# Altium footprint library UL865PCB.PcbLib: 1 footprints
Each footprint in its own frame and in the unit in brackets; x right, y up, seen from the top. Pads: shape width x height; smd on the part's side, far side on the other; paste and mask are expansions set on the pad; w line width, h text height; cw(c..) or ccw(c..) is an arc to the next point about the centre after c.
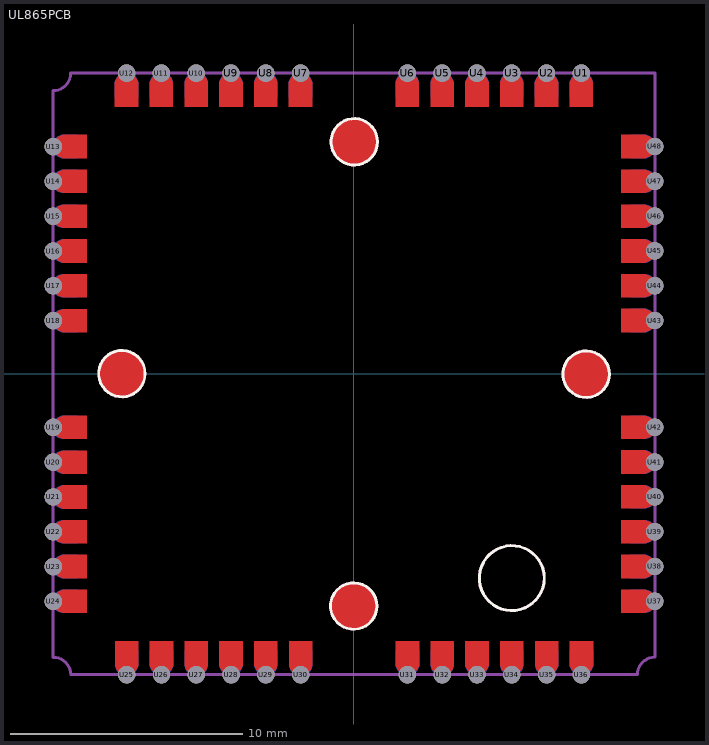
[diagram p0: the footprint, top view; thin cyan lines are the x and y axes]

## UL865PCB [mm]
pads (48):
  round 0.75 hole 0.75 paste+0 mask+0: U1(9.798,12.962) U2(8.298,12.962) U3(6.798,12.962) U4(5.298,12.962) U5(3.798,12.962) U6(2.298,12.962) U7(-2.302,12.962) U8(-3.802,12.962) U9(-5.302,12.962) U10(-6.802,12.962) U11(-8.302,12.962) U12(-9.802,12.962) U13(-12.962,9.798) U14(-12.962,8.298) U15(-12.962,6.798) U16(-12.962,5.298) U17(-12.962,3.798) U18(-12.962,2.298) U19(-12.962,-2.302) U20(-12.962,-3.802) U21(-12.962,-5.302) U22(-12.962,-6.802) U23(-12.962,-8.302) U24(-12.962,-9.802) U25(-9.798,-12.962) U26(-8.298,-12.962) U27(-6.798,-12.962) U28(-5.298,-12.962) U29(-3.798,-12.962) U30(-2.298,-12.962) U31(2.302,-12.962) U32(3.802,-12.962) U33(5.302,-12.962) U34(6.802,-12.962) U35(8.302,-12.962) U36(9.802,-12.962) U37(12.962,-9.798) U38(12.962,-8.298) U39(12.962,-6.798) U40(12.962,-5.298) U41(12.962,-3.798) U42(12.962,-2.298) U43(12.962,2.302) U44(12.962,3.802) U45(12.962,5.302) U46(12.962,6.802) U47(12.962,8.302) U48(12.962,9.802)
Top Layer:
  region: -12.462,1.798 -12.562,1.798 -12.746,1.874 -12.886,2.015 -12.962,2.199 -12.962,2.398 -12.886,2.581 -12.746,2.722 -12.562,2.798 -12.462,2.798 -11.512,2.798 -11.512,1.798
  region: -12.462,3.298 -12.562,3.298 -12.746,3.374 -12.886,3.515 -12.962,3.699 -12.962,3.898 -12.886,4.081 -12.746,4.222 -12.562,4.298 -12.462,4.298 -11.512,4.298 -11.512,3.298
  region: -12.462,4.798 -12.562,4.798 -12.746,4.874 -12.886,5.015 -12.962,5.199 -12.962,5.398 -12.886,5.581 -12.746,5.722 -12.562,5.798 -12.462,5.798 -11.512,5.798 -11.512,4.798
  region: -12.462,6.298 -12.562,6.298 -12.746,6.374 -12.886,6.515 -12.962,6.699 -12.962,6.898 -12.886,7.081 -12.746,7.222 -12.562,7.298 -12.462,7.298 -11.512,7.298 -11.512,6.298
  region: -12.462,7.798 -12.562,7.798 -12.746,7.874 -12.886,8.015 -12.962,8.199 -12.962,8.398 -12.886,8.581 -12.746,8.722 -12.562,8.798 -12.462,8.798 -11.512,8.798 -11.512,7.798
  region: -12.462,9.298 -12.562,9.298 -12.746,9.374 -12.886,9.515 -12.962,9.699 -12.962,9.898 -12.886,10.081 -12.746,10.222 -12.562,10.298 -12.462,10.298 -11.512,10.298 -11.512,9.298
  region: -12.462,-10.302 -12.562,-10.302 -12.746,-10.226 -12.886,-10.085 -12.962,-9.901 -12.962,-9.702 -12.886,-9.519 -12.746,-9.378 -12.562,-9.302 -12.462,-9.302 -11.512,-9.302 -11.512,-10.302
  region: -12.462,-8.802 -12.562,-8.802 -12.746,-8.726 -12.886,-8.585 -12.962,-8.401 -12.962,-8.202 -12.886,-8.019 -12.746,-7.878 -12.562,-7.802 -12.462,-7.802 -11.512,-7.802 -11.512,-8.802
  region: -12.462,-7.302 -12.562,-7.302 -12.746,-7.226 -12.886,-7.085 -12.962,-6.901 -12.962,-6.702 -12.886,-6.519 -12.746,-6.378 -12.562,-6.302 -12.462,-6.302 -11.512,-6.302 -11.512,-7.302
  region: -12.462,-5.802 -12.562,-5.802 -12.746,-5.726 -12.886,-5.585 -12.962,-5.401 -12.962,-5.202 -12.886,-5.019 -12.746,-4.878 -12.562,-4.802 -12.462,-4.802 -11.512,-4.802 -11.512,-5.802
  region: -12.462,-4.302 -12.562,-4.302 -12.746,-4.226 -12.886,-4.085 -12.962,-3.901 -12.962,-3.702 -12.886,-3.519 -12.746,-3.378 -12.562,-3.302 -12.462,-3.302 -11.512,-3.302 -11.512,-4.302
  region: -12.462,-2.802 -12.562,-2.802 -12.746,-2.726 -12.886,-2.585 -12.962,-2.401 -12.962,-2.202 -12.886,-2.019 -12.746,-1.878 -12.562,-1.802 -12.462,-1.802 -11.512,-1.802 -11.512,-2.802
  region: -1.798,-12.462 -1.798,-12.562 -1.874,-12.746 -2.015,-12.886 -2.199,-12.962 -2.398,-12.962 -2.581,-12.886 -2.722,-12.746 -2.798,-12.562 -2.798,-12.462 -2.798,-11.512 -1.798,-11.512
  region: -3.298,-12.462 -3.298,-12.562 -3.374,-12.746 -3.515,-12.886 -3.699,-12.962 -3.898,-12.962 -4.081,-12.886 -4.222,-12.746 -4.298,-12.562 -4.298,-12.462 -4.298,-11.512 -3.298,-11.512
  region: -4.798,-12.462 -4.798,-12.562 -4.874,-12.746 -5.015,-12.886 -5.199,-12.962 -5.398,-12.962 -5.581,-12.886 -5.722,-12.746 -5.798,-12.562 -5.798,-12.462 -5.798,-11.512 -4.798,-11.512
  region: -6.298,-12.462 -6.298,-12.562 -6.374,-12.746 -6.515,-12.886 -6.699,-12.962 -6.898,-12.962 -7.081,-12.886 -7.222,-12.746 -7.298,-12.562 -7.298,-12.462 -7.298,-11.512 -6.298,-11.512
  region: -7.798,-12.462 -7.798,-12.562 -7.874,-12.746 -8.015,-12.886 -8.199,-12.962 -8.398,-12.962 -8.581,-12.886 -8.722,-12.746 -8.798,-12.562 -8.798,-12.462 -8.798,-11.512 -7.798,-11.512
  region: -9.298,-12.462 -9.298,-12.562 -9.374,-12.746 -9.515,-12.886 -9.699,-12.962 -9.898,-12.962 -10.081,-12.886 -10.222,-12.746 -10.298,-12.562 -10.298,-12.462 -10.298,-11.512 -9.298,-11.512
  region: 10.302,-12.462 10.302,-12.562 10.226,-12.746 10.085,-12.886 9.901,-12.962 9.702,-12.962 9.519,-12.886 9.378,-12.746 9.302,-12.562 9.302,-12.462 9.302,-11.512 10.302,-11.512
  region: 8.802,-12.462 8.802,-12.562 8.726,-12.746 8.585,-12.886 8.401,-12.962 8.202,-12.962 8.019,-12.886 7.878,-12.746 7.802,-12.562 7.802,-12.462 7.802,-11.512 8.802,-11.512
  region: 7.302,-12.462 7.302,-12.562 7.226,-12.746 7.085,-12.886 6.901,-12.962 6.702,-12.962 6.519,-12.886 6.378,-12.746 6.302,-12.562 6.302,-12.462 6.302,-11.512 7.302,-11.512
  region: 5.802,-12.462 5.802,-12.562 5.726,-12.746 5.585,-12.886 5.401,-12.962 5.202,-12.962 5.019,-12.886 4.878,-12.746 4.802,-12.562 4.802,-12.462 4.802,-11.512 5.802,-11.512
  region: 4.302,-12.462 4.302,-12.562 4.226,-12.746 4.085,-12.886 3.901,-12.962 3.702,-12.962 3.519,-12.886 3.378,-12.746 3.302,-12.562 3.302,-12.462 3.302,-11.512 4.302,-11.512
  region: 2.802,-12.462 2.802,-12.562 2.726,-12.746 2.585,-12.886 2.401,-12.962 2.202,-12.962 2.019,-12.886 1.878,-12.746 1.802,-12.562 1.802,-12.462 1.802,-11.512 2.802,-11.512
  region: 12.462,-1.798 12.562,-1.798 12.746,-1.874 12.886,-2.015 12.962,-2.199 12.962,-2.398 12.886,-2.581 12.746,-2.722 12.562,-2.798 12.462,-2.798 11.512,-2.798 11.512,-1.798
  region: 12.462,-3.298 12.562,-3.298 12.746,-3.374 12.886,-3.515 12.962,-3.699 12.962,-3.898 12.886,-4.081 12.746,-4.222 12.562,-4.298 12.462,-4.298 11.512,-4.298 11.512,-3.298
  region: 12.462,-4.798 12.562,-4.798 12.746,-4.874 12.886,-5.015 12.962,-5.199 12.962,-5.398 12.886,-5.581 12.746,-5.722 12.562,-5.798 12.462,-5.798 11.512,-5.798 11.512,-4.798
  region: 12.462,-6.298 12.562,-6.298 12.746,-6.374 12.886,-6.515 12.962,-6.699 12.962,-6.898 12.886,-7.081 12.746,-7.222 12.562,-7.298 12.462,-7.298 11.512,-7.298 11.512,-6.298
  region: 12.462,-7.798 12.562,-7.798 12.746,-7.874 12.886,-8.015 12.962,-8.199 12.962,-8.398 12.886,-8.581 12.746,-8.722 12.562,-8.798 12.462,-8.798 11.512,-8.798 11.512,-7.798
  region: 12.462,-9.298 12.562,-9.298 12.746,-9.374 12.886,-9.515 12.962,-9.699 12.962,-9.898 12.886,-10.081 12.746,-10.222 12.562,-10.298 12.462,-10.298 11.512,-10.298 11.512,-9.298
  region: 12.462,10.302 12.562,10.302 12.746,10.226 12.886,10.085 12.962,9.901 12.962,9.702 12.886,9.519 12.746,9.378 12.562,9.302 12.462,9.302 11.512,9.302 11.512,10.302
  region: 12.462,8.802 12.562,8.802 12.746,8.726 12.886,8.585 12.962,8.401 12.962,8.202 12.886,8.019 12.746,7.878 12.562,7.802 12.462,7.802 11.512,7.802 11.512,8.802
  region: 12.462,7.302 12.562,7.302 12.746,7.226 12.886,7.085 12.962,6.901 12.962,6.702 12.886,6.519 12.746,6.378 12.562,6.302 12.462,6.302 11.512,6.302 11.512,7.302
  region: 12.462,5.802 12.562,5.802 12.746,5.726 12.886,5.585 12.962,5.401 12.962,5.202 12.886,5.019 12.746,4.878 12.562,4.802 12.462,4.802 11.512,4.802 11.512,5.802
  region: 12.462,4.302 12.562,4.302 12.746,4.226 12.886,4.085 12.962,3.901 12.962,3.702 12.886,3.519 12.746,3.378 12.562,3.302 12.462,3.302 11.512,3.302 11.512,4.302
  region: 12.462,2.802 12.562,2.802 12.746,2.726 12.886,2.585 12.962,2.401 12.962,2.202 12.886,2.019 12.746,1.878 12.562,1.802 12.462,1.802 11.512,1.802 11.512,2.802
  region: 1.798,12.462 1.798,12.562 1.874,12.746 2.015,12.886 2.199,12.962 2.398,12.962 2.581,12.886 2.722,12.746 2.798,12.562 2.798,12.462 2.798,11.512 1.798,11.512
  region: 3.298,12.462 3.298,12.562 3.374,12.746 3.515,12.886 3.699,12.962 3.898,12.962 4.081,12.886 4.222,12.746 4.298,12.562 4.298,12.462 4.298,11.512 3.298,11.512
  region: 4.798,12.462 4.798,12.562 4.874,12.746 5.015,12.886 5.199,12.962 5.398,12.962 5.581,12.886 5.722,12.746 5.798,12.562 5.798,12.462 5.798,11.512 4.798,11.512
  region: 6.298,12.462 6.298,12.562 6.374,12.746 6.515,12.886 6.699,12.962 6.898,12.962 7.081,12.886 7.222,12.746 7.298,12.562 7.298,12.462 7.298,11.512 6.298,11.512
  region: 7.798,12.462 7.798,12.562 7.874,12.746 8.015,12.886 8.199,12.962 8.398,12.962 8.581,12.886 8.722,12.746 8.798,12.562 8.798,12.462 8.798,11.512 7.798,11.512
  region: 9.298,12.462 9.298,12.562 9.374,12.746 9.515,12.886 9.699,12.962 9.898,12.962 10.081,12.886 10.222,12.746 10.298,12.562 10.298,12.462 10.298,11.512 9.298,11.512
  region: -10.302,12.462 -10.302,12.562 -10.226,12.746 -10.085,12.886 -9.901,12.962 -9.702,12.962 -9.519,12.886 -9.378,12.746 -9.302,12.562 -9.302,12.462 -9.302,11.512 -10.302,11.512
  region: -8.802,12.462 -8.802,12.562 -8.726,12.746 -8.585,12.886 -8.401,12.962 -8.202,12.962 -8.019,12.886 -7.878,12.746 -7.802,12.562 -7.802,12.462 -7.802,11.512 -8.802,11.512
  region: -7.302,12.462 -7.302,12.562 -7.226,12.746 -7.085,12.886 -6.901,12.962 -6.702,12.962 -6.519,12.886 -6.378,12.746 -6.302,12.562 -6.302,12.462 -6.302,11.512 -7.302,11.512
  region: -5.802,12.462 -5.802,12.562 -5.726,12.746 -5.585,12.886 -5.401,12.962 -5.202,12.962 -5.019,12.886 -4.878,12.746 -4.802,12.562 -4.802,12.462 -4.802,11.512 -5.802,11.512
  region: -4.302,12.462 -4.302,12.562 -4.226,12.746 -4.085,12.886 -3.901,12.962 -3.702,12.962 -3.519,12.886 -3.378,12.746 -3.302,12.562 -3.302,12.462 -3.302,11.512 -4.302,11.512
  region: -2.802,12.462 -2.802,12.562 -2.726,12.746 -2.585,12.886 -2.401,12.962 -2.202,12.962 -2.019,12.886 -1.878,12.746 -1.802,12.562 -1.802,12.462 -1.802,11.512 -2.802,11.512
  pour cut-out: 9.962,0.991 9.968,0.991 10.071,0.991 10.272,0.951 10.461,0.872 10.632,0.758 10.777,0.613 10.891,0.442 10.969,0.253 11.009,0.052 11.009,-0.051 11.009,-0.143 10.973,-0.325 10.902,-0.496 10.8,-0.65 10.669,-0.781 10.515,-0.884 10.344,-0.954 10.162,-0.991 10.07,-0.991 9.962,-0.991 9.869,-0.991 9.686,-0.954 9.514,-0.883 9.36,-0.78 9.228,-0.648 9.125,-0.493 9.053,-0.321 9.017,-0.139 9.017,-0.046 9.017,0.046 9.017,0.139 9.053,0.321 9.125,0.493 9.228,0.648 9.36,0.78 9.514,0.883 9.686,0.954 9.869,0.991
  pour cut-out: 0.991,-9.962 0.991,-9.968 0.991,-10.071 0.951,-10.272 0.872,-10.461 0.758,-10.632 0.613,-10.777 0.442,-10.891 0.253,-10.969 0.052,-11.009 -0.051,-11.009 -0.143,-11.009 -0.325,-10.973 -0.496,-10.902 -0.65,-10.8 -0.781,-10.669 -0.884,-10.515 -0.954,-10.344 -0.991,-10.162 -0.991,-10.07 -0.991,-9.962 -0.991,-9.869 -0.954,-9.686 -0.883,-9.514 -0.78,-9.36 -0.648,-9.228 -0.493,-9.125 -0.321,-9.053 -0.139,-9.017 -0.046,-9.017 0.046,-9.017 0.139,-9.017 0.321,-9.053 0.493,-9.125 0.648,-9.228 0.78,-9.36 0.883,-9.514 0.954,-9.686 0.991,-9.869
  pour cut-out: -9.962,-0.991 -9.968,-0.991 -10.071,-0.991 -10.272,-0.951 -10.461,-0.872 -10.632,-0.758 -10.777,-0.613 -10.891,-0.442 -10.969,-0.253 -11.009,-0.052 -11.009,0.051 -11.009,0.143 -10.973,0.325 -10.902,0.496 -10.8,0.65 -10.669,0.781 -10.515,0.884 -10.344,0.954 -10.162,0.991 -10.07,0.991 -9.962,0.991 -9.869,0.991 -9.686,0.954 -9.514,0.883 -9.36,0.78 -9.228,0.648 -9.125,0.493 -9.053,0.321 -9.017,0.139 -9.017,0.046 -9.017,-0.046 -9.017,-0.139 -9.053,-0.321 -9.125,-0.493 -9.228,-0.648 -9.36,-0.78 -9.514,-0.883 -9.686,-0.954 -9.869,-0.991
  pour cut-out: -0.991,9.962 -0.991,9.968 -0.991,10.071 -0.951,10.272 -0.872,10.461 -0.758,10.632 -0.613,10.777 -0.442,10.891 -0.253,10.969 -0.052,11.009 0.051,11.009 0.143,11.009 0.325,10.973 0.496,10.902 0.65,10.8 0.781,10.669 0.884,10.515 0.954,10.344 0.991,10.162 0.991,10.07 0.991,9.962 0.991,9.869 0.954,9.686 0.883,9.514 0.78,9.36 0.648,9.228 0.493,9.125 0.321,9.053 0.139,9.017 0.046,9.017 -0.046,9.017 -0.139,9.017 -0.321,9.053 -0.493,9.125 -0.648,9.228 -0.78,9.36 -0.883,9.514 -0.954,9.686 -0.991,9.869
Bottom Layer:
  region: 1.798,12.507 1.798,12.606 1.874,12.79 2.015,12.931 2.199,13.007 2.397,13.007 2.581,12.931 2.722,12.79 2.798,12.606 2.798,12.507 2.798,11.921 1.798,11.921
  region: 3.298,12.507 3.298,12.606 3.374,12.79 3.515,12.931 3.699,13.007 3.897,13.007 4.081,12.931 4.222,12.79 4.298,12.606 4.298,12.507 4.298,11.921 3.298,11.921
  region: 4.798,12.507 4.798,12.606 4.874,12.79 5.015,12.931 5.199,13.007 5.397,13.007 5.581,12.931 5.722,12.79 5.798,12.606 5.798,12.507 5.798,11.921 4.798,11.921
  region: 6.298,12.507 6.298,12.606 6.374,12.79 6.515,12.931 6.699,13.007 6.897,13.007 7.081,12.931 7.222,12.79 7.298,12.606 7.298,12.507 7.298,11.921 6.298,11.921
  region: 7.798,12.507 7.798,12.606 7.874,12.79 8.015,12.931 8.199,13.007 8.397,13.007 8.581,12.931 8.722,12.79 8.798,12.606 8.798,12.507 8.798,11.921 7.798,11.921
  region: 9.298,12.507 9.298,12.606 9.374,12.79 9.515,12.931 9.699,13.007 9.897,13.007 10.081,12.931 10.222,12.79 10.298,12.606 10.298,12.507 10.298,11.921 9.298,11.921
  region: -12.507,9.298 -12.606,9.298 -12.79,9.374 -12.931,9.515 -13.007,9.699 -13.007,9.897 -12.931,10.081 -12.79,10.222 -12.606,10.298 -12.507,10.298 -11.921,10.298 -11.921,9.298
  region: -12.507,7.798 -12.606,7.798 -12.79,7.874 -12.931,8.015 -13.007,8.199 -13.007,8.397 -12.931,8.581 -12.79,8.722 -12.606,8.798 -12.507,8.798 -11.921,8.798 -11.921,7.798
  region: -12.507,6.298 -12.606,6.298 -12.79,6.374 -12.931,6.515 -13.007,6.699 -13.007,6.897 -12.931,7.081 -12.79,7.222 -12.606,7.298 -12.507,7.298 -11.921,7.298 -11.921,6.298
  region: -12.507,4.798 -12.606,4.798 -12.79,4.874 -12.931,5.015 -13.007,5.199 -13.007,5.397 -12.931,5.581 -12.79,5.722 -12.606,5.798 -12.507,5.798 -11.921,5.798 -11.921,4.798
  region: -12.507,3.298 -12.606,3.298 -12.79,3.374 -12.931,3.515 -13.007,3.699 -13.007,3.897 -12.931,4.081 -12.79,4.222 -12.606,4.298 -12.507,4.298 -11.921,4.298 -11.921,3.298
  region: -12.507,1.798 -12.606,1.798 -12.79,1.874 -12.931,2.015 -13.007,2.199 -13.007,2.397 -12.931,2.581 -12.79,2.722 -12.606,2.798 -12.507,2.798 -11.921,2.798 -11.921,1.798
  region: -12.507,-2.802 -12.606,-2.802 -12.79,-2.726 -12.931,-2.585 -13.007,-2.401 -13.007,-2.203 -12.931,-2.019 -12.79,-1.878 -12.606,-1.802 -12.507,-1.802 -11.921,-1.802 -11.921,-2.802
  region: -12.507,-4.302 -12.606,-4.302 -12.79,-4.226 -12.931,-4.085 -13.007,-3.901 -13.007,-3.703 -12.931,-3.519 -12.79,-3.378 -12.606,-3.302 -12.507,-3.302 -11.921,-3.302 -11.921,-4.302
  region: -12.507,-5.802 -12.606,-5.802 -12.79,-5.726 -12.931,-5.585 -13.007,-5.401 -13.007,-5.203 -12.931,-5.019 -12.79,-4.878 -12.606,-4.802 -12.507,-4.802 -11.921,-4.802 -11.921,-5.802
  region: -12.507,-7.302 -12.606,-7.302 -12.79,-7.226 -12.931,-7.085 -13.007,-6.901 -13.007,-6.703 -12.931,-6.519 -12.79,-6.378 -12.606,-6.302 -12.507,-6.302 -11.921,-6.302 -11.921,-7.302
  region: -12.507,-8.802 -12.606,-8.802 -12.79,-8.726 -12.931,-8.585 -13.007,-8.401 -13.007,-8.203 -12.931,-8.019 -12.79,-7.878 -12.606,-7.802 -12.507,-7.802 -11.921,-7.802 -11.921,-8.802
  region: -12.507,-10.302 -12.606,-10.302 -12.79,-10.226 -12.931,-10.085 -13.007,-9.901 -13.007,-9.703 -12.931,-9.519 -12.79,-9.378 -12.606,-9.302 -12.507,-9.302 -11.921,-9.302 -11.921,-10.302
  region: -9.298,-12.507 -9.298,-12.606 -9.374,-12.79 -9.515,-12.931 -9.699,-13.007 -9.897,-13.007 -10.081,-12.931 -10.222,-12.79 -10.298,-12.606 -10.298,-12.507 -10.298,-11.921 -9.298,-11.921
  region: -7.798,-12.507 -7.798,-12.606 -7.874,-12.79 -8.015,-12.931 -8.199,-13.007 -8.397,-13.007 -8.581,-12.931 -8.722,-12.79 -8.798,-12.606 -8.798,-12.507 -8.798,-11.921 -7.798,-11.921
  region: -6.298,-12.507 -6.298,-12.606 -6.374,-12.79 -6.515,-12.931 -6.699,-13.007 -6.897,-13.007 -7.081,-12.931 -7.222,-12.79 -7.298,-12.606 -7.298,-12.507 -7.298,-11.921 -6.298,-11.921
  region: -4.798,-12.507 -4.798,-12.606 -4.874,-12.79 -5.015,-12.931 -5.199,-13.007 -5.397,-13.007 -5.581,-12.931 -5.722,-12.79 -5.798,-12.606 -5.798,-12.507 -5.798,-11.921 -4.798,-11.921
  region: -3.298,-12.507 -3.298,-12.606 -3.374,-12.79 -3.515,-12.931 -3.699,-13.007 -3.897,-13.007 -4.081,-12.931 -4.222,-12.79 -4.298,-12.606 -4.298,-12.507 -4.298,-11.921 -3.298,-11.921
  region: -1.798,-12.507 -1.798,-12.606 -1.874,-12.79 -2.015,-12.931 -2.199,-13.007 -2.397,-13.007 -2.581,-12.931 -2.722,-12.79 -2.798,-12.606 -2.798,-12.507 -2.798,-11.921 -1.798,-11.921
  region: 2.802,-12.507 2.802,-12.606 2.726,-12.79 2.585,-12.931 2.401,-13.007 2.203,-13.007 2.019,-12.931 1.878,-12.79 1.802,-12.606 1.802,-12.507 1.802,-11.921 2.802,-11.921
  region: 4.302,-12.507 4.302,-12.606 4.226,-12.79 4.085,-12.931 3.901,-13.007 3.703,-13.007 3.519,-12.931 3.378,-12.79 3.302,-12.606 3.302,-12.507 3.302,-11.921 4.302,-11.921
  region: 5.802,-12.507 5.802,-12.606 5.726,-12.79 5.585,-12.931 5.401,-13.007 5.203,-13.007 5.019,-12.931 4.878,-12.79 4.802,-12.606 4.802,-12.507 4.802,-11.921 5.802,-11.921
  region: 7.302,-12.507 7.302,-12.606 7.226,-12.79 7.085,-12.931 6.901,-13.007 6.703,-13.007 6.519,-12.931 6.378,-12.79 6.302,-12.606 6.302,-12.507 6.302,-11.921 7.302,-11.921
  region: 8.802,-12.507 8.802,-12.606 8.726,-12.79 8.585,-12.931 8.401,-13.007 8.203,-13.007 8.019,-12.931 7.878,-12.79 7.802,-12.606 7.802,-12.507 7.802,-11.921 8.802,-11.921
  region: 10.302,-12.507 10.302,-12.606 10.226,-12.79 10.085,-12.931 9.901,-13.007 9.703,-13.007 9.519,-12.931 9.378,-12.79 9.302,-12.606 9.302,-12.507 9.302,-11.921 10.302,-11.921
  region: 12.507,-9.298 12.606,-9.298 12.79,-9.374 12.931,-9.515 13.007,-9.699 13.007,-9.897 12.931,-10.081 12.79,-10.222 12.606,-10.298 12.507,-10.298 11.921,-10.298 11.921,-9.298
  region: 12.507,-7.798 12.606,-7.798 12.79,-7.874 12.931,-8.015 13.007,-8.199 13.007,-8.397 12.931,-8.581 12.79,-8.722 12.606,-8.798 12.507,-8.798 11.921,-8.798 11.921,-7.798
  region: 12.507,-6.298 12.606,-6.298 12.79,-6.374 12.931,-6.515 13.007,-6.699 13.007,-6.897 12.931,-7.081 12.79,-7.222 12.606,-7.298 12.507,-7.298 11.921,-7.298 11.921,-6.298
  region: 12.507,-4.798 12.606,-4.798 12.79,-4.874 12.931,-5.015 13.007,-5.199 13.007,-5.397 12.931,-5.581 12.79,-5.722 12.606,-5.798 12.507,-5.798 11.921,-5.798 11.921,-4.798
  region: 12.507,-3.298 12.606,-3.298 12.79,-3.374 12.931,-3.515 13.007,-3.699 13.007,-3.897 12.931,-4.081 12.79,-4.222 12.606,-4.298 12.507,-4.298 11.921,-4.298 11.921,-3.298
  region: 12.507,-1.798 12.606,-1.798 12.79,-1.874 12.931,-2.015 13.007,-2.199 13.007,-2.397 12.931,-2.581 12.79,-2.722 12.606,-2.798 12.507,-2.798 11.921,-2.798 11.921,-1.798
  region: 12.507,2.802 12.606,2.802 12.79,2.726 12.931,2.585 13.007,2.401 13.007,2.203 12.931,2.019 12.79,1.878 12.606,1.802 12.507,1.802 11.921,1.802 11.921,2.802
  region: 12.507,4.302 12.606,4.302 12.79,4.226 12.931,4.085 13.007,3.901 13.007,3.703 12.931,3.519 12.79,3.378 12.606,3.302 12.507,3.302 11.921,3.302 11.921,4.302
  region: 12.507,5.802 12.606,5.802 12.79,5.726 12.931,5.585 13.007,5.401 13.007,5.203 12.931,5.019 12.79,4.878 12.606,4.802 12.507,4.802 11.921,4.802 11.921,5.802
  region: 12.507,7.302 12.606,7.302 12.79,7.226 12.931,7.085 13.007,6.901 13.007,6.703 12.931,6.519 12.79,6.378 12.606,6.302 12.507,6.302 11.921,6.302 11.921,7.302
  region: 12.507,8.802 12.606,8.802 12.79,8.726 12.931,8.585 13.007,8.401 13.007,8.203 12.931,8.019 12.79,7.878 12.606,7.802 12.507,7.802 11.921,7.802 11.921,8.802
  region: 12.507,10.302 12.606,10.302 12.79,10.226 12.931,10.085 13.007,9.901 13.007,9.703 12.931,9.519 12.79,9.378 12.606,9.302 12.507,9.302 11.921,9.302 11.921,10.302
  region: -10.302,12.507 -10.302,12.606 -10.226,12.79 -10.085,12.931 -9.901,13.007 -9.703,13.007 -9.519,12.931 -9.378,12.79 -9.302,12.606 -9.302,12.507 -9.302,11.921 -10.302,11.921
  region: -8.802,12.507 -8.802,12.606 -8.726,12.79 -8.585,12.931 -8.401,13.007 -8.203,13.007 -8.019,12.931 -7.878,12.79 -7.802,12.606 -7.802,12.507 -7.802,11.921 -8.802,11.921
  region: -7.302,12.507 -7.302,12.606 -7.226,12.79 -7.085,12.931 -6.901,13.007 -6.703,13.007 -6.519,12.931 -6.378,12.79 -6.302,12.606 -6.302,12.507 -6.302,11.921 -7.302,11.921
  region: -5.802,12.507 -5.802,12.606 -5.726,12.79 -5.585,12.931 -5.401,13.007 -5.203,13.007 -5.019,12.931 -4.878,12.79 -4.802,12.606 -4.802,12.507 -4.802,11.921 -5.802,11.921
  region: -4.302,12.507 -4.302,12.606 -4.226,12.79 -4.085,12.931 -3.901,13.007 -3.703,13.007 -3.519,12.931 -3.378,12.79 -3.302,12.606 -3.302,12.507 -3.302,11.921 -4.302,11.921
  region: -2.802,12.507 -2.802,12.606 -2.726,12.79 -2.585,12.931 -2.401,13.007 -2.203,13.007 -2.019,12.931 -1.878,12.79 -1.802,12.606 -1.802,12.507 -1.802,11.921 -2.802,11.921
  pour cut-out: 9.962,0.991 9.968,0.991 10.071,0.991 10.272,0.951 10.461,0.872 10.632,0.758 10.777,0.613 10.891,0.442 10.969,0.253 11.009,0.052 11.009,-0.051 11.009,-0.143 10.973,-0.325 10.902,-0.496 10.8,-0.65 10.669,-0.781 10.515,-0.884 10.344,-0.954 10.162,-0.991 10.07,-0.991 9.962,-0.991 9.869,-0.991 9.686,-0.954 9.514,-0.883 9.36,-0.78 9.228,-0.648 9.125,-0.493 9.053,-0.321 9.017,-0.139 9.017,-0.046 9.017,0.046 9.017,0.139 9.053,0.321 9.125,0.493 9.228,0.648 9.36,0.78 9.514,0.883 9.686,0.954 9.869,0.991
  pour cut-out: 0.991,-9.962 0.991,-9.968 0.991,-10.071 0.951,-10.272 0.872,-10.461 0.758,-10.632 0.613,-10.777 0.442,-10.891 0.253,-10.969 0.052,-11.009 -0.051,-11.009 -0.143,-11.009 -0.325,-10.973 -0.496,-10.902 -0.65,-10.8 -0.781,-10.669 -0.884,-10.515 -0.954,-10.344 -0.991,-10.162 -0.991,-10.07 -0.991,-9.962 -0.991,-9.869 -0.954,-9.686 -0.883,-9.514 -0.78,-9.36 -0.648,-9.228 -0.493,-9.125 -0.321,-9.053 -0.139,-9.017 -0.046,-9.017 0.046,-9.017 0.139,-9.017 0.321,-9.053 0.493,-9.125 0.648,-9.228 0.78,-9.36 0.883,-9.514 0.954,-9.686 0.991,-9.869
  pour cut-out: -9.962,-0.991 -9.968,-0.991 -10.071,-0.991 -10.272,-0.951 -10.461,-0.872 -10.632,-0.758 -10.777,-0.613 -10.891,-0.442 -10.969,-0.253 -11.009,-0.052 -11.009,0.051 -11.009,0.143 -10.973,0.325 -10.902,0.496 -10.8,0.65 -10.669,0.781 -10.515,0.884 -10.344,0.954 -10.162,0.991 -10.07,0.991 -9.962,0.991 -9.869,0.991 -9.686,0.954 -9.514,0.883 -9.36,0.78 -9.228,0.648 -9.125,0.493 -9.053,0.321 -9.017,0.139 -9.017,0.046 -9.017,-0.046 -9.017,-0.139 -9.053,-0.321 -9.125,-0.493 -9.228,-0.648 -9.36,-0.78 -9.514,-0.883 -9.686,-0.954 -9.869,-0.991
  pour cut-out: -0.991,9.962 -0.991,9.968 -0.991,10.071 -0.951,10.272 -0.872,10.461 -0.758,10.632 -0.613,10.777 -0.442,10.891 -0.253,10.969 -0.052,11.009 0.051,11.009 0.143,11.009 0.325,10.973 0.496,10.902 0.65,10.8 0.781,10.669 0.884,10.515 0.954,10.344 0.991,10.162 0.991,10.07 0.991,9.962 0.991,9.869 0.954,9.686 0.883,9.514 0.78,9.36 0.648,9.228 0.493,9.125 0.321,9.053 0.139,9.017 0.046,9.017 -0.046,9.017 -0.139,9.017 -0.321,9.053 -0.493,9.125 -0.648,9.228 -0.78,9.36 -0.883,9.514 -0.954,9.686 -0.991,9.869
Top Overlay keep-out:
  circle w0.127: c6.8,-8.8 r1.4
  circle w0.127: c10.004,-0.012 r1
  circle w0.127: c-0.012,-10.004 r1
  circle w0.127: c-10.004,0.012 r1
  circle w0.127: c0.012,10.004 r1
Mechanical 1:
  text "Wiring inhibit" at -3.81,7.97 h0.91
Mechanical 13:
  lines w0.127: -12.962,-12.212 -12.962,12.207 ccw(c-12.962,12.957) -12.212,12.957 ; -12.957,-12.212 cw(c-12.957,-12.962) -12.207,-12.962 12.212,-12.962 ; -12.212,12.962 12.962,12.962 ; 12.212,-12.957 cw(c12.962,-12.957) 12.962,-12.207 ; 12.966,-12.207 12.966,12.962
Multi-Layer:
  pour cut-out: 6.8,-7.204 6.642,-7.204 6.331,-7.266 6.038,-7.387 5.775,-7.563 5.551,-7.787 5.375,-8.051 5.254,-8.343 5.192,-8.654 5.192,-8.812 5.192,-8.97 5.254,-9.281 5.375,-9.574 5.551,-9.837 5.775,-10.061 6.038,-10.237 6.331,-10.358 6.642,-10.42 6.8,-10.42 6.958,-10.42 7.268,-10.358 7.56,-10.237 7.822,-10.062 8.046,-9.838 8.221,-9.576 8.342,-9.284 8.404,-8.974 8.404,-8.816 8.404,-8.808 8.404,-8.65 8.342,-8.34 8.221,-8.048 8.046,-7.786 7.822,-7.562 7.56,-7.387 7.268,-7.266 6.958,-7.204